# EAGLE library part H15-FEDERLEISTE (library 1A-meinLib)
Federleiste H 15 F, Verdrahtung mit Flachstecker 6,3 x 0,8mm quer, 0906 215 2811 , Harting
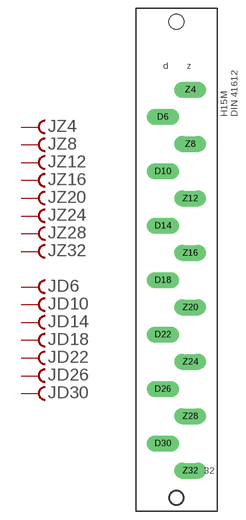
[diagram p292: symbol with the pads of H15-FEDERLEISTE; footprint H15-FEDERLEISTE]

Designator prefix J; gates Z4=F Z8=F Z12=F Z16=F Z20=F Z24=F Z28=F D30=F Z32=F D6=F D10=F D14=F D18=F D22=F D26=F

## H15-FEDERLEISTE  [H15-FEDERLEISTE]
D6  D6:F  pas
D10  D10:F  pas
D14  D14:F  pas
D18  D18:F  pas
D22  D22:F  pas
D26  D26:F  pas
D30  D30:F  pas
Z4  Z4:F  pas
Z8  Z8:F  pas
Z12  Z12:F  pas
Z16  Z16:F  pas
Z20  Z20:F  pas
Z24  Z24:F  pas
Z28  Z28:F  pas
Z32  Z32:F  pas

## Footprint H15-FEDERLEISTE (pad centres in mm)
drill 1.6 pad 3 long: D6 -10.16,-17.78; D10 -10.16,-27.94; D14 -10.16,-38.1; D18 -10.16,-48.26; D22 -10.16,-58.42; D26 -10.16,-68.58; D30 -10.16,-78.74; Z4 -5.08,-12.7; Z8 -5.08,-22.86; Z12 -5.08,-33.02; Z16 -5.08,-43.18; Z20 -5.08,-53.34; Z24 -5.08,-63.5; Z28 -5.08,-73.66; Z32 -5.08,-83.82
hole 2.794 at -7.62,-88.9
hole 2.794 at -7.62,0